# Altium footprint library STM32F446RE.PcbLib: 1 footprints
Each footprint in its own frame and in the unit in brackets; x right, y up, seen from the top. Pads: shape width x height; smd on the part's side, far side on the other; paste and mask are expansions set on the pad; w line width, h text height; cw(c..) or ccw(c..) is an arc to the next point about the centre after c.
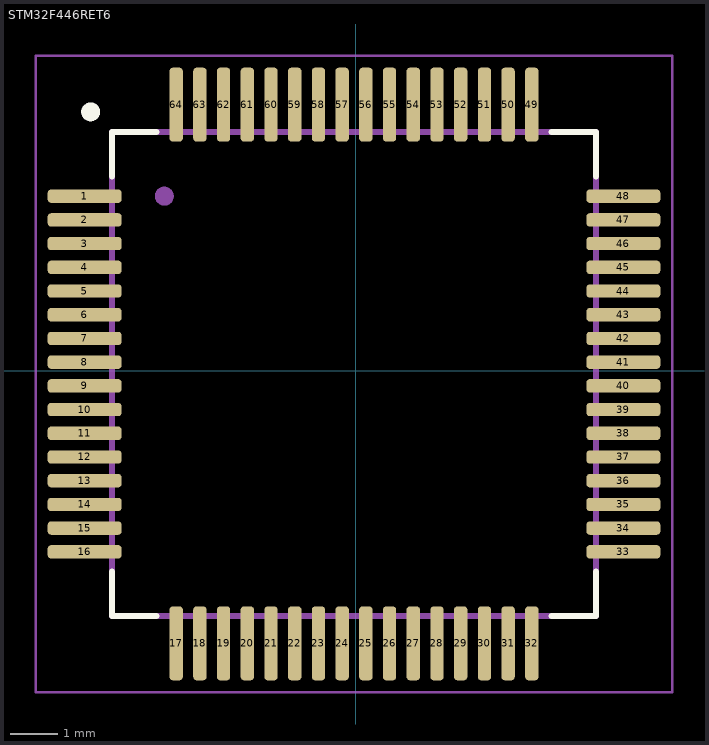
[diagram p0: the footprint, top view; thin cyan lines are the x and y axes]

## STM32F446RET6 [mm]
pads (64):
  rrect50% 1.56x0.28 smd: 1(-5.715,3.683) 2(-5.715,3.183) 3(-5.715,2.683) 4(-5.715,2.183) 5(-5.715,1.683) 6(-5.715,1.183) 7(-5.715,0.683) 8(-5.715,0.183) 9(-5.715,-0.317) 10(-5.715,-0.817) 11(-5.715,-1.317) 12(-5.715,-1.817) 13(-5.715,-2.317) 14(-5.715,-2.817) 15(-5.715,-3.317) 16(-5.715,-3.817) 33(5.645,-3.817) 34(5.645,-3.317) 35(5.645,-2.817) 36(5.645,-2.317) 37(5.645,-1.817) 38(5.645,-1.317) 39(5.645,-0.817) 40(5.645,-0.317) 41(5.645,0.183) 42(5.645,0.683) 43(5.645,1.183) 44(5.645,1.683) 45(5.645,2.183) 46(5.645,2.683) 47(5.645,3.183) 48(5.645,3.683)
  rrect50% 0.28x1.56 smd: 17(-3.785,-5.747) 18(-3.285,-5.747) 19(-2.785,-5.747) 20(-2.285,-5.747) 21(-1.785,-5.747) 22(-1.285,-5.747) 23(-0.785,-5.747) 24(-0.285,-5.747) 25(0.215,-5.747) 26(0.715,-5.747) 27(1.215,-5.747) 28(1.715,-5.747) 29(2.215,-5.747) 30(2.715,-5.747) 31(3.215,-5.747) 32(3.715,-5.747) 49(3.715,5.613) 50(3.215,5.613) 51(2.715,5.613) 52(2.215,5.613) 53(1.715,5.613) 54(1.215,5.613) 55(0.715,5.613) 56(0.215,5.613) 57(-0.285,5.613) 58(-0.785,5.613) 59(-1.285,5.613) 60(-1.785,5.613) 61(-2.285,5.613) 62(-2.785,5.613) 63(-3.285,5.613) 64(-3.785,5.613)
Top Overlay:
  circle w0.2: c-5.588,5.461 r0.1
  lines w0.127: -5.135,-4.237 -5.135,-5.167 -4.205,-5.167 ; -5.135,4.103 -5.135,5.033 -4.205,5.033 ; 4.135,-5.167 5.065,-5.167 5.065,-4.237 ; 4.135,5.033 5.065,5.033 5.065,4.103
Mechanical 13:
  circle w0.2: c-4.035,3.683 r0.1
  lines w0.127: -5.135,-5.167 -5.135,5.033 5.065,5.033 5.065,-5.167 -5.135,-5.167
Mechanical 15:
  lines w0.05: -6.745,-6.777 -6.745,6.643 6.675,6.643 6.675,-6.777 -6.745,-6.777
3D body "STM32F446RET6--3DModel-STEP-56544.STEP": height 1.63, standoff 0.03, extent -6,-6 6,6